# EAGLE library part PRTR5V0U4D (library PRTR5V0U4D)
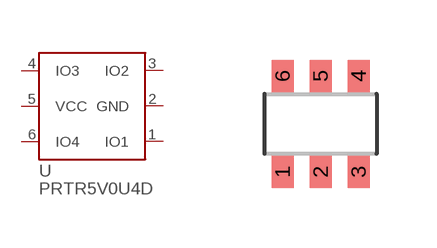
[diagram p0: symbol with the pads of SC74; footprint SC74]

Designator prefix -

## PRTR5V0U4D  [SC74]
1  IO1  pas
2  GND  pwr
3  IO2  pas
4  IO3  pas
5  VCC  pwr
6  IO4  pas

## Footprint SC74 (pad centres in mm)
smd 0.55 x 0.8: 1 -0.95,-1.2; 2 0,-1.2; 3 0.95,-1.2; 4 0.95,1.2; 5 0,1.2; 6 -0.95,1.2